# EAGLE library part 691417220006 (library Wurth_Connectors_WR-TBL Spring Clamp)
WR-TBL Serie 4172 - 7.00 mm 45° Cable Entry Screwless KIND PROPERTIES Pitch 7 mm MATERIAL PROPERTIES Insulator Material PA6/66 Insulator Flammability Rating UL94 V-0 Insulator Color Grey Contact Material Phosphor Bronze Contact Plating Matte Tin Wire Guard Material Phosphor Bronze GENERAL INFORMATION Operating Temperature -30 up to +120 °C Compliance Lead free / RoHS ELECTRICAL PROPERTIES IR UL 4 A IR VDE 4 A Working Voltage [UL] 300 V (AC) Working Voltage [VDE] 750 V (AC) Withstanding Voltage [UL] 1600 V (AC) Withstanding Voltage [VDE] 2500 V (AC) Mechanical Properties Wire Strip Length 7 (mm) Wire Properties Solid Wire Section (AWG) 16 to 30 (AWG) Solid Wire Section (Metric) 1.31 to 0.0509 (mm²) Stranded Wire Section (AWG) 16 to 30 (AWG) Stranded Wire Section (Metric) 1.31 to 0.0509 (mm²) CERTIFICATION UL Approval E150931 VDE Approval 40013441 Packaging Properties Packaging Box <https://www.we-online.com/catalog/media/o79347v209%20WR-TBL_6914172200xx_6914174200xx_4C.jpg> Details see: https://www.we-online.com/catalog/en/TBL_7_00_4172_SCREWLESS_ANGLED_ENTRY_6914172200XX/ Updated by Ella Wu 2019-12-31 2019(C) Wurth Elektronik
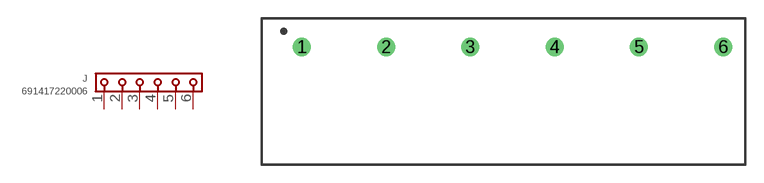
[diagram p39: symbol with the pads of 691417220006; footprint 691417220006]

Designator prefix J

## 691417220006 (DATASHEET-URL: https://www.we-online.com/redexpert/spec/691417220006?ae; IR-UL: 4A; IR-VDE: 4A; MOUNT: THT; PART-NUMBER: 691417220006; PINS: 6; PITCH: 7mm; TYPE: 45°; VALUE: 691417220006; WIRE: 16 to 30 (AWG) 1.31 to 0.0509 (mm²); WORKING-VOLTAGE-UL: 300V (AC); WORKING-VOLTAGE-VDE: 750V (AC))  [691417220006]
1  1  pas
2  2  pas
3  3  pas
4  4  pas
5  5  pas
6  6  pas

## Footprint 691417220006 (pad centres in mm)
WR-TBL Serie 4172 - 7.00 mm 45° Cable Entry Screwless Max Height = 13.2mm , Pitch 7mm , 6pins
drill 1: 1 -17.5,0; 2 -10.5,0; 3 -3.5,0; 4 3.5,0; 5 10.5,0; 6 17.5,0